# Altium footprint library mpsm.PcbLib: 22 footprints (part 1 of 2)
Each footprint in its own frame and in the unit in brackets; x right, y up, seen from the top. Pads: shape width x height; smd on the part's side, far side on the other; paste and mask are expansions set on the pad; w line width, h text height; cw(c..) or ccw(c..) is an arc to the next point about the centre after c.
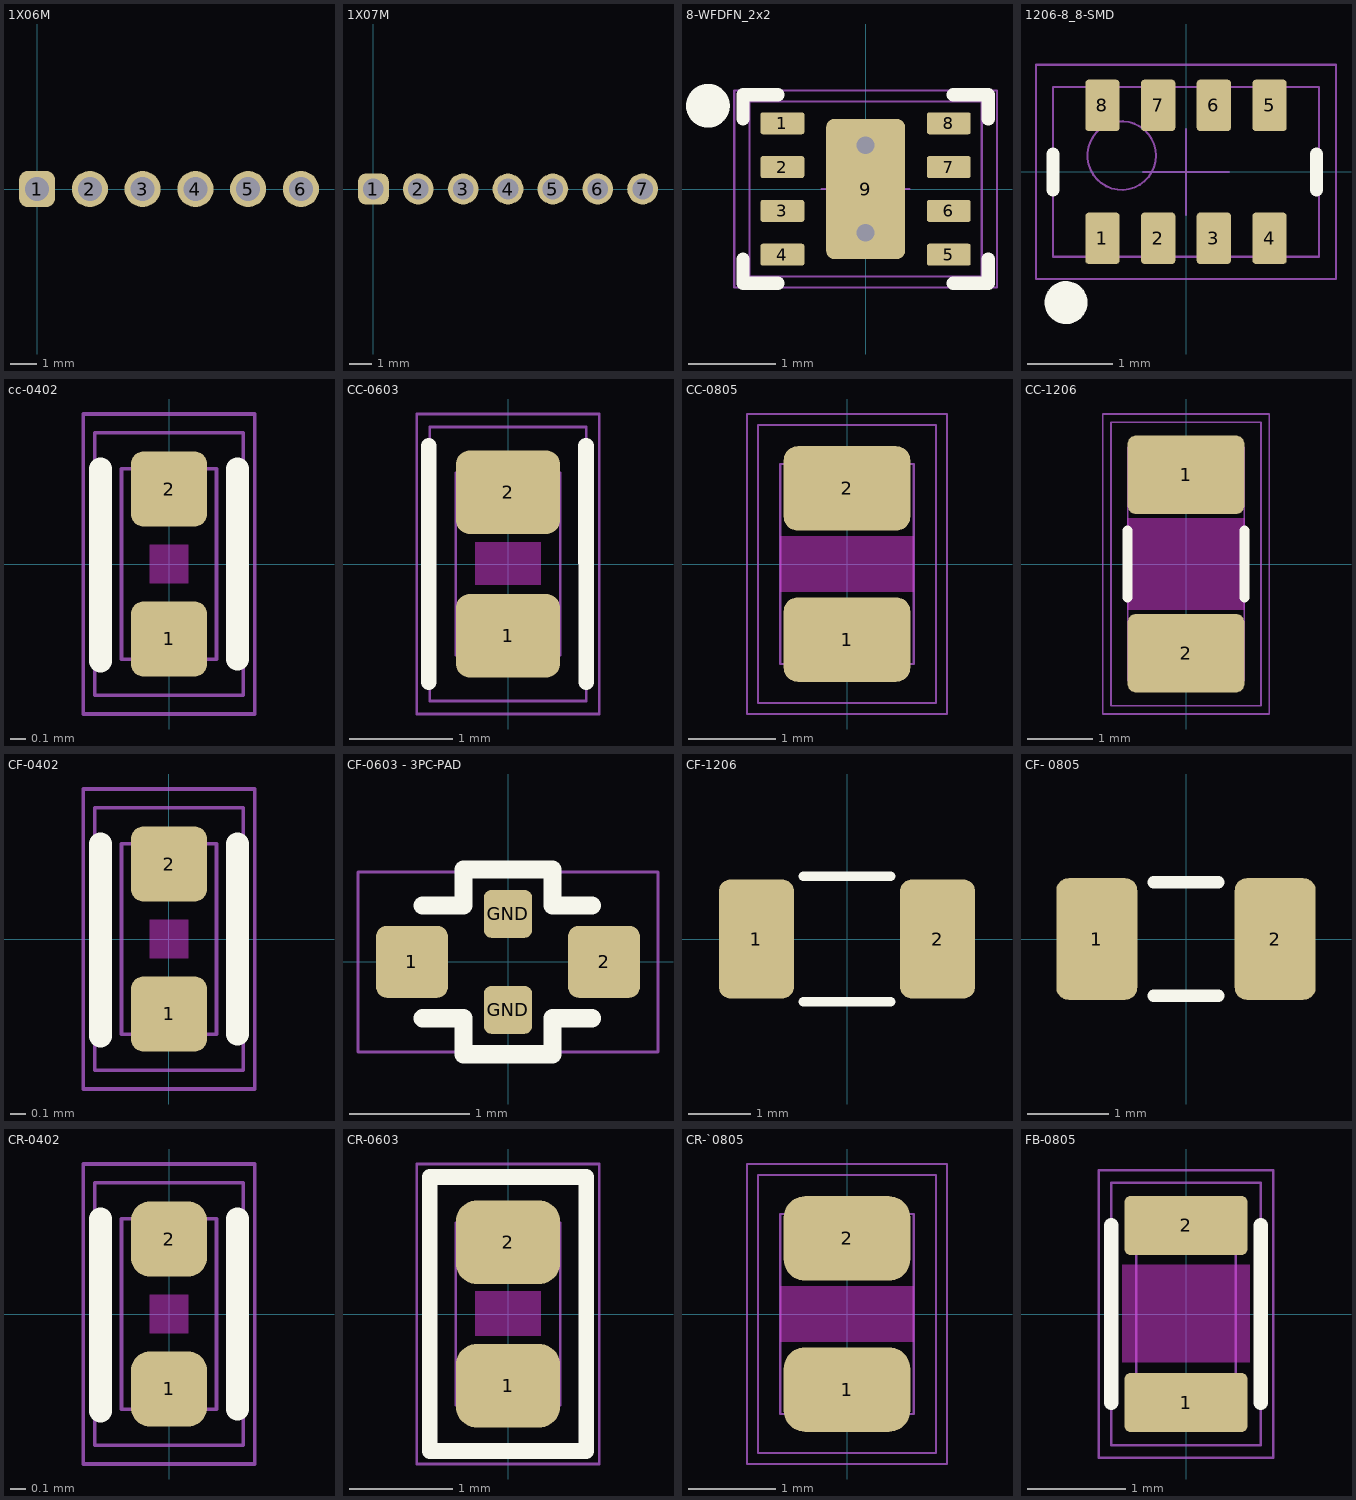
[diagram p0: the footprints below, top view; thin cyan lines are the x and y axes]

## 1X06M [mil]
pads (6):
  rrect50% 54x54.02 hole 36: 1(0,0)
  round 54 hole 36: 2(78.74,0) 3(157.48,0) 4(236.22,0) 5(314.96,0) 6(393.7,0)
Mechanical 16:
  region: 305.43,9.58 305.43,-9.42 325.27,-9.42 325.27,9.58
  region: 384.43,9.58 384.43,-9.42 404.27,-9.42 404.27,9.58
  region: 147.56,9.92 147.56,-9.76 167.4,-9.76 167.4,9.92
  region: 226.93,10.08 226.93,-9.92 246.77,-9.92 246.77,10.08
  rectangle: -9.84,-9.84 9.84,10
  rectangle: 68.9,-9.84 88.58,10

## 1X07M [mil] "1X07M"
pads (7):
  rrect50% 54x54 hole 36: 1(0,0)
  round 54 hole 36: 2(78.74,0) 3(157.48,0) 4(236.22,0) 5(314.96,0) 6(393.7,0) 7(472.44,0)
Mechanical 16:
  rectangle: 68.9,-9.84 88.58,10
  rectangle: -9.84,-9.84 9.84,10
  region: 226.38,10 226.38,-9.84 246.22,-9.84 246.22,10
  region: 147.56,9.92 147.56,-9.76 167.4,-9.76 167.4,9.92
  region: 384.3,10.08 384.3,-9.92 404.14,-9.92 404.14,10.08
  region: 305.3,10.08 305.3,-9.92 325.14,-9.92 325.14,10.08
  region: 463.3,10.08 463.3,-9.92 483.14,-9.92 483.14,10.08
  rectangle: 68.9,-9.84 88.58,10
  rectangle: -9.84,-9.84 9.84,10
  region: 226.38,10 226.38,-9.84 246.22,-9.84 246.22,10
  region: 147.56,9.92 147.56,-9.76 167.4,-9.76 167.4,9.92
  region: 384.3,10.08 384.3,-9.92 404.14,-9.92 404.14,10.08
  region: 305.3,10.08 305.3,-9.92 325.14,-9.92 325.14,10.08
  region: 463.3,10.08 463.3,-9.92 483.14,-9.92 483.14,10.08

## 8-WFDFN_2x2 [mm] "8-WFDFN"
height 0.8
pads (9):
  rrect20% 0.5x0.25 smd: 1(-0.95,0.75) 2(-0.95,0.25) 3(-0.95,-0.25) 4(-0.95,-0.75) 5(0.95,-0.75) 6(0.95,-0.25) 7(0.95,0.25) 8(0.95,0.75)
  rrect20% 0.9x1.6 smd: 9(0,0)
via 0,0.5 diameter 0.508 hole 0.203
via 0,-0.5 diameter 0.508 hole 0.203
Top Overlay:
  circle w0.25: c-1.8,0.95 r0.125
  lines w0.152: -1.4,-0.8 -1.4,-1.075 -1,-1.075 ; -1.4,0.8 -1.4,1.075 -1,1.075 ; 1,-1.075 1.4,-1.075 1.4,-0.8 ; 1,1.075 1.4,1.075 1.4,0.8
Mechanical 13:
  lines w0.025: -1.325,-1 1.325,-1 1.325,1 -1.325,1 -1.325,-1
Mechanical 15:
  lines w0.025: -0.5,0 0.5,0 ; 0,-0.5 0,0.5 ; -1.5,-1.125 1.5,-1.125 1.5,1.125 -1.5,1.125 -1.5,-1.125
3D body "DRV8837DSGR--3DModel-STEP-56544.STEP": height 0.8, standoff 0, extent -1,-1 1,1

## 1206-8_8-SMD [mm] "1206-8 ChipFET"
height 1.1
pads (8):
  rrect20% 0.4x0.6 smd paste-0.05: 1(-0.975,-0.775) 2(-0.325,-0.775) 3(0.325,-0.775) 4(0.975,-0.775) 5(0.975,0.775) 6(0.325,0.775) 7(-0.325,0.775) 8(-0.975,0.775)
Top Overlay:
  circle w0.25: c-1.4,-1.525 r0.125
  lines w0.152: -1.55,-0.21 -1.55,0.21 ; 1.524,-0.21 1.524,0.21
Mechanical 13:
  circle w0.025: c-0.75,0.19 r0.4
  lines w0.025: -1.55,-0.99 -1.55,0.99 1.55,0.99 1.55,-0.99 -1.55,-0.99
Mechanical 15:
  lines w0.025: -0.5,0 0.5,0 ; 0,-0.5 0,0.5 ; -1.75,-1.25 -1.75,1.25 1.75,1.25 1.75,-1.25 -1.75,-1.25
3D body "8-SMD.STEP": height 1.15, standoff 0.05, extent -1.512,-0.95 1.513,0.95

## cc-0402 [mm] "CC-0402"
height 0.762
pads (2):
  rrect33% 0.508x0.5 smd mask+0.051: 1(0,-0.5) 2(0,0.5)
Top Layer keep-out:
  region: -0.127,0.127 0.127,0.127 0.127,-0.127 -0.127,-0.127
Top Overlay:
  lines w0.152: -0.457,-0.648 -0.457,0.635 ; 0.457,-0.635 0.457,0.635
Mechanical 4:
  text "1" at -0.102,-0.593 h0.25
  text "2" at -0.102,0.423 h0.25
Mechanical 13:
  lines w0.025: -0.318,-0.635 0.318,-0.635 0.318,0.635 -0.318,0.635 -0.318,-0.635
Mechanical 15:
  lines w0.025: -0.495,-0.875 0.495,-0.875 0.495,0.875 -0.495,0.875 -0.495,-0.875
Mechanical 16:
  lines w0.025: -0.572,-1 -0.572,1 0.572,1 0.572,-1 -0.572,-1
3D body "CC0402.stp": height 0.51, standoff -0.01, extent -0.26,-0.501 0.26,0.501

## CC-0603 [mil] "CC-0603"
height 35
pads (2):
  rrect33% 40x32 smd mask+2: 1(0,-27.5) 2(0,27.5)
Top Layer keep-out:
  region: -12.5,-7.87 -12.5,8.27 12.5,8.27 12.5,-7.87
Top Overlay:
  lines w6: -30.32,-45.28 -30.32,45.28 ; 29.92,45.28 30,-45.28
Mechanical 13:
  lines w1: -20,-35 20,-35 20,35 -20,35 -20,-35
Mechanical 15:
  lines w1: -30,-52.5 30,-52.5 30,52.5 -30,52.5 -30,-52.5
Mechanical 16:
  lines w1: -35,-57.5 35,-57.5 35,57.5 -35,57.5 -35,-57.5
3D body "CC0603.stp": height 37.01, standoff -0.39, extent -18.5,-34.45 18.9,34.45

## CC-0805 [mil] "CC-0805"
height 60
pads (2):
  rrect33% 57x38 smd mask+2: 1(0,-34) 2(0,34)
Top Layer keep-out:
  region: -30,-12.5 30,-12.5 30,12.5 -30,12.5
Mechanical 13:
  lines w1: -30,-45 -30,45 30,45 30,-45 -30,-45
Mechanical 15:
  lines w1: -40,-62.5 40,-62.5 40,62.5 -40,62.5 -40,-62.5
Mechanical 16:
  lines w1: -45,-67.5 45,-67.5 45,67.5 -45,67.5 -45,-67.5
3D body "CC0805.stp": height 50.2, standoff 0.98, extent -24.8,-39.37 25.2,39.37

## CC-1206 [mil] "CC-1206"
height 80
pads (2):
  rrect20% 70x47 smd mask+2: 1(0,53.5) 2(0,-53.5)
Top Layer keep-out:
  region: -35,-27.5 35,-27.5 35,27.5 -35,27.5
Top Overlay:
  lines w6: -35,-20 -35,20 ; 35,-20 35,20
Mechanical 13:
  lines w1: -35,-70 -35,70 35,70 35,-70 -35,-70
Mechanical 15:
  lines w1: -45,-85 45,-85 45,85 -45,85 -45,-85
Mechanical 16:
  lines w1: -50,-90 50,-90 50,90 -50,90 -50,-90
3D body "CC1206.stp": height 72, standoff 1.13, extent -35,-70.93 35.87,62.93

## CF-0402 [mm] "0.040\" L x 0.020\" W x 0.019\" H (1.00mm x 0.50mm x 0.48mm)"
height 0.39
pads (2):
  rrect33% 0.508x0.5 smd mask+0.051: 1(0,-0.5) 2(0,0.5)
Top Layer keep-out:
  region: -0.127,0.127 0.127,0.127 0.127,-0.127 -0.127,-0.127
Top Overlay:
  lines w0.152: -0.457,-0.648 -0.457,0.635 ; 0.457,-0.635 0.457,0.635
Mechanical 4:
  text "1" at -0.102,-0.593 h0.25
  text "2" at -0.102,0.423 h0.25
Mechanical 13:
  lines w0.025: -0.317,-0.635 0.318,-0.635 0.318,0.635 -0.317,0.635 -0.317,-0.635
Mechanical 15:
  lines w0.025: -0.495,-0.875 0.495,-0.875 0.495,0.875 -0.495,0.875 -0.495,-0.875
Mechanical 16:
  lines w0.025: -0.571,-1 -0.572,1 0.572,1 0.572,-1 -0.571,-1
3D body "ERB-RD0R75X.stp": height 0.44, standoff 0.05, extent -0.25,-0.5 0.25,0.5

## CF-0603 - 3PC-PAD [mm] "3 Terminal CAP"
height 0.6
pads (4):
  rrect30% 0.6x0.6 smd: 1(-0.8,0) 2(0.8,0)
  rrect30% 0.4x0.4 smd: GND(0,-0.4) GND(0,0.4)
Top Layer keep-out:
  region: -0.375,1.15
  region: -0.3,0.1
Top Overlay:
  lines w0.152: -0.71,-0.47 -0.37,-0.47 -0.37,-0.77 0.37,-0.77 0.37,-0.47 0.7,-0.47 ; -0.71,0.47 -0.37,0.47 -0.37,0.77 0.37,0.77 0.37,0.47 0.7,0.47
Mechanical 15:
  lines w0.025: -1.25,-0.75 -1.25,0.75 1.25,0.75 1.25,-0.75 -1.25,-0.75
3D body "0603-3PC-Pad.stp": height 0.65, standoff 0.05, extent -0.8,-0.4 0.8,0.4

## CF-1206 [mm] "FUSE  1206 package 3.2 x 1.6mm  (3216)"
height 0.84
pads (2):
  rrect30% 1.2x1.9 smd: 1(-1.45,0) 2(1.45,0)
Top Overlay:
  lines w0.152: -0.7,-1 0.7,-1 ; -0.7,1 0.7,1
3D body "1206_Fuse.stp": height 0.76, standoff 0.04, extent -1.6,-0.81 1.6,0.81

## CF- 0805 [mm] "FUSE  0805 package 2.15x 1.35mm"
height 1.2
pads (2):
  rrect30% 1x1.5 smd: 1(-1.1,0) 2(1.1,0)
Top Overlay:
  lines w0.152: -0.4,-0.7 0.4,-0.7 ; -0.4,0.7 0.4,0.7

## CR-0402 [mm] "CR-0402"
height 0.762
pads (2):
  rrect50% 0.508x0.5 smd: 1(0,-0.5) 2(0,0.5)
Top Layer keep-out:
  region: -0.127,0.127 0.127,0.127 0.127,-0.127 -0.127,-0.127
Top Overlay:
  lines w0.152: -0.457,-0.648 -0.457,0.635 ; 0.457,-0.635 0.457,0.635
Mechanical 4:
  text "2" at -0.102,0.423 h0.25
  text "1" at -0.102,-0.593 h0.25
Mechanical 13:
  lines w0.025: -0.318,-0.635 -0.318,0.635 0.318,0.635 0.318,-0.635 -0.318,-0.635
Mechanical 15:
  lines w0.025: -0.495,-0.875 -0.495,0.875 0.495,0.875 0.495,-0.875 -0.495,-0.875
Mechanical 16:
  lines w0.025: -0.572,-1 -0.572,1 0.572,1 0.572,-1 -0.572,-1
3D body "R0402.stp": height 0.27, standoff 0, extent -0.251,-0.5 0.251,0.5

## CR-0603 [mil] "CR-0603"
height 30
pads (2):
  rrect50% 40x32 smd mask+2: 1(0,-27.5) 2(0,27.5)
Top Layer keep-out:
  region: -12.5,-8.27 -12.5,8.66 12.5,8.66 12.5,-8.27
Top Overlay:
  lines w6: -30,-52.5 -30,52.5 30,52.5 30,45 30,-52.5 -30,-52.5
Mechanical 13:
  lines w1: -20,-35 -20,35 20,35 20,-35 -20,-35
Mechanical 15:
  lines w1: -30,-52.5 -30,52.5 30,52.5 30,-52.5 -30,-52.5
Mechanical 16:
  lines w1: -35,-57.5 -35,57.5 35,57.5 35,-57.5 -35,-57.5
3D body "R0603.STEP": height 23.62, standoff 1.97, extent -15.75,-31.49 15.75,31.5

## CR-`0805 [mil] "CR-0805"
height 30
pads (2):
  rrect50% 57x38 smd mask+2: 1(0,-34) 2(0,34)
Top Layer keep-out:
  region: -30,-12.5 30,-12.5 30,12.5 -30,12.5
Mechanical 13:
  lines w1: -30,-45 30,-45 30,45 -30,45 -30,-45
Mechanical 15:
  lines w1: -40,-62.5 -40,62.5 40,62.5 40,-62.5 -40,-62.5
Mechanical 16:
  lines w1: -45,-67.5 -45,67.5 45,67.5 45,-67.5 -45,-67.5
3D body "R0805-M.stp": height 19.68, standoff 0, extent -24.61,-39.37 24.6,39.37

## FB-0805 [mm] "FB0805"
height 0.94
pads (2):
  rrect20% 1.25x0.6 smd mask+0.051: 1(0,-0.9) 2(0,0.9)
Top Layer keep-out:
  region: -0.65,-0.49 0.65,-0.49 0.65,0.5 -0.65,0.5
Top Overlay:
  lines w0.152: -0.76,-0.9 -0.76,0.9 ; 0.76,-0.9 0.76,0.9
Mechanical 13:
  lines w0.025: -0.508,-0.889 -0.508,0.889 0.508,0.889 0.508,-0.889 -0.508,-0.889
Mechanical 15:
  lines w0.025: -0.762,-1.333 -0.762,1.333 0.762,1.333 0.762,-1.333 -0.762,-1.333
Mechanical 16:
  lines w0.025: -0.889,-1.46 -0.889,1.46 0.889,1.46 0.889,-1.46 -0.889,-1.46
3D body "FB0805.STEP": height 1.1, standoff 0.05, extent -0.625,-1 0.625,1